# Altium footprint library SOD2512X116N.PcbLib: 1 footprints
Each footprint in its own frame and in the unit in brackets; x right, y up, seen from the top. Pads: shape width x height; smd on the part's side, far side on the other; paste and mask are expansions set on the pad; w line width, h text height; cw(c..) or ccw(c..) is an arc to the next point about the centre after c.
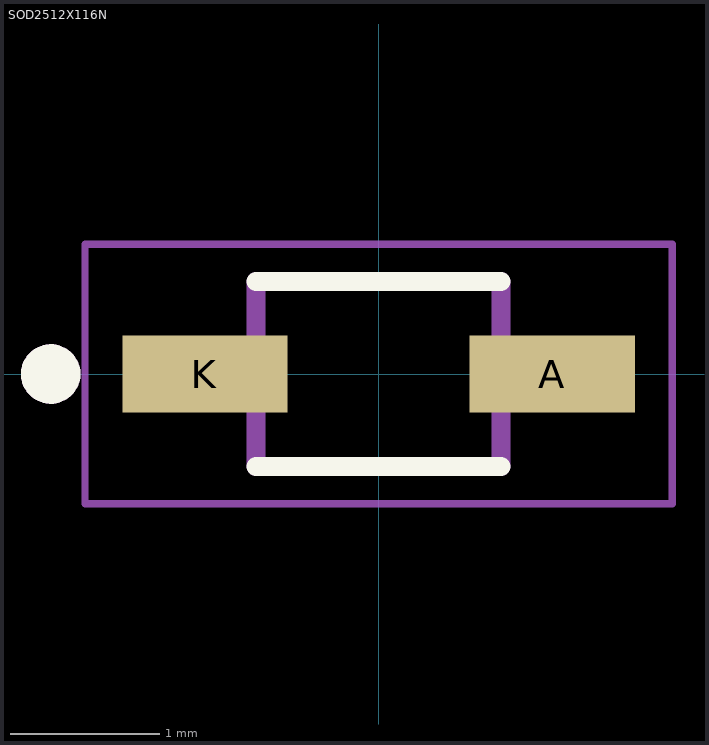
[diagram p0: the footprint, top view; thin cyan lines are the x and y axes]

## SOD2512X116N [mm]
height 1.16
pads (2):
  rect 1.11x0.52 smd: A(1.165,0) K(-1.165,0)
Top Overlay:
  circle w0.2: c-2.2,0 r0.1
  lines w0.127: -0.823,-0.62 0.823,-0.62 ; -0.823,0.62 0.823,0.62
Mechanical 13:
  circle w0.2: c-2.2,0 r0.1
  lines w0.127: -0.823,-0.62 -0.823,0.62 0.823,0.62 0.823,-0.62 -0.823,-0.62
Mechanical 15:
  lines w0.05: -1.97,-0.87 -1.97,0.87 1.97,0.87 1.97,-0.87 -1.97,-0.87